# Altium integrated library TI Data Converters Analog to Digital Converter.IntLib: 2198 symbols (part 70 of 164)
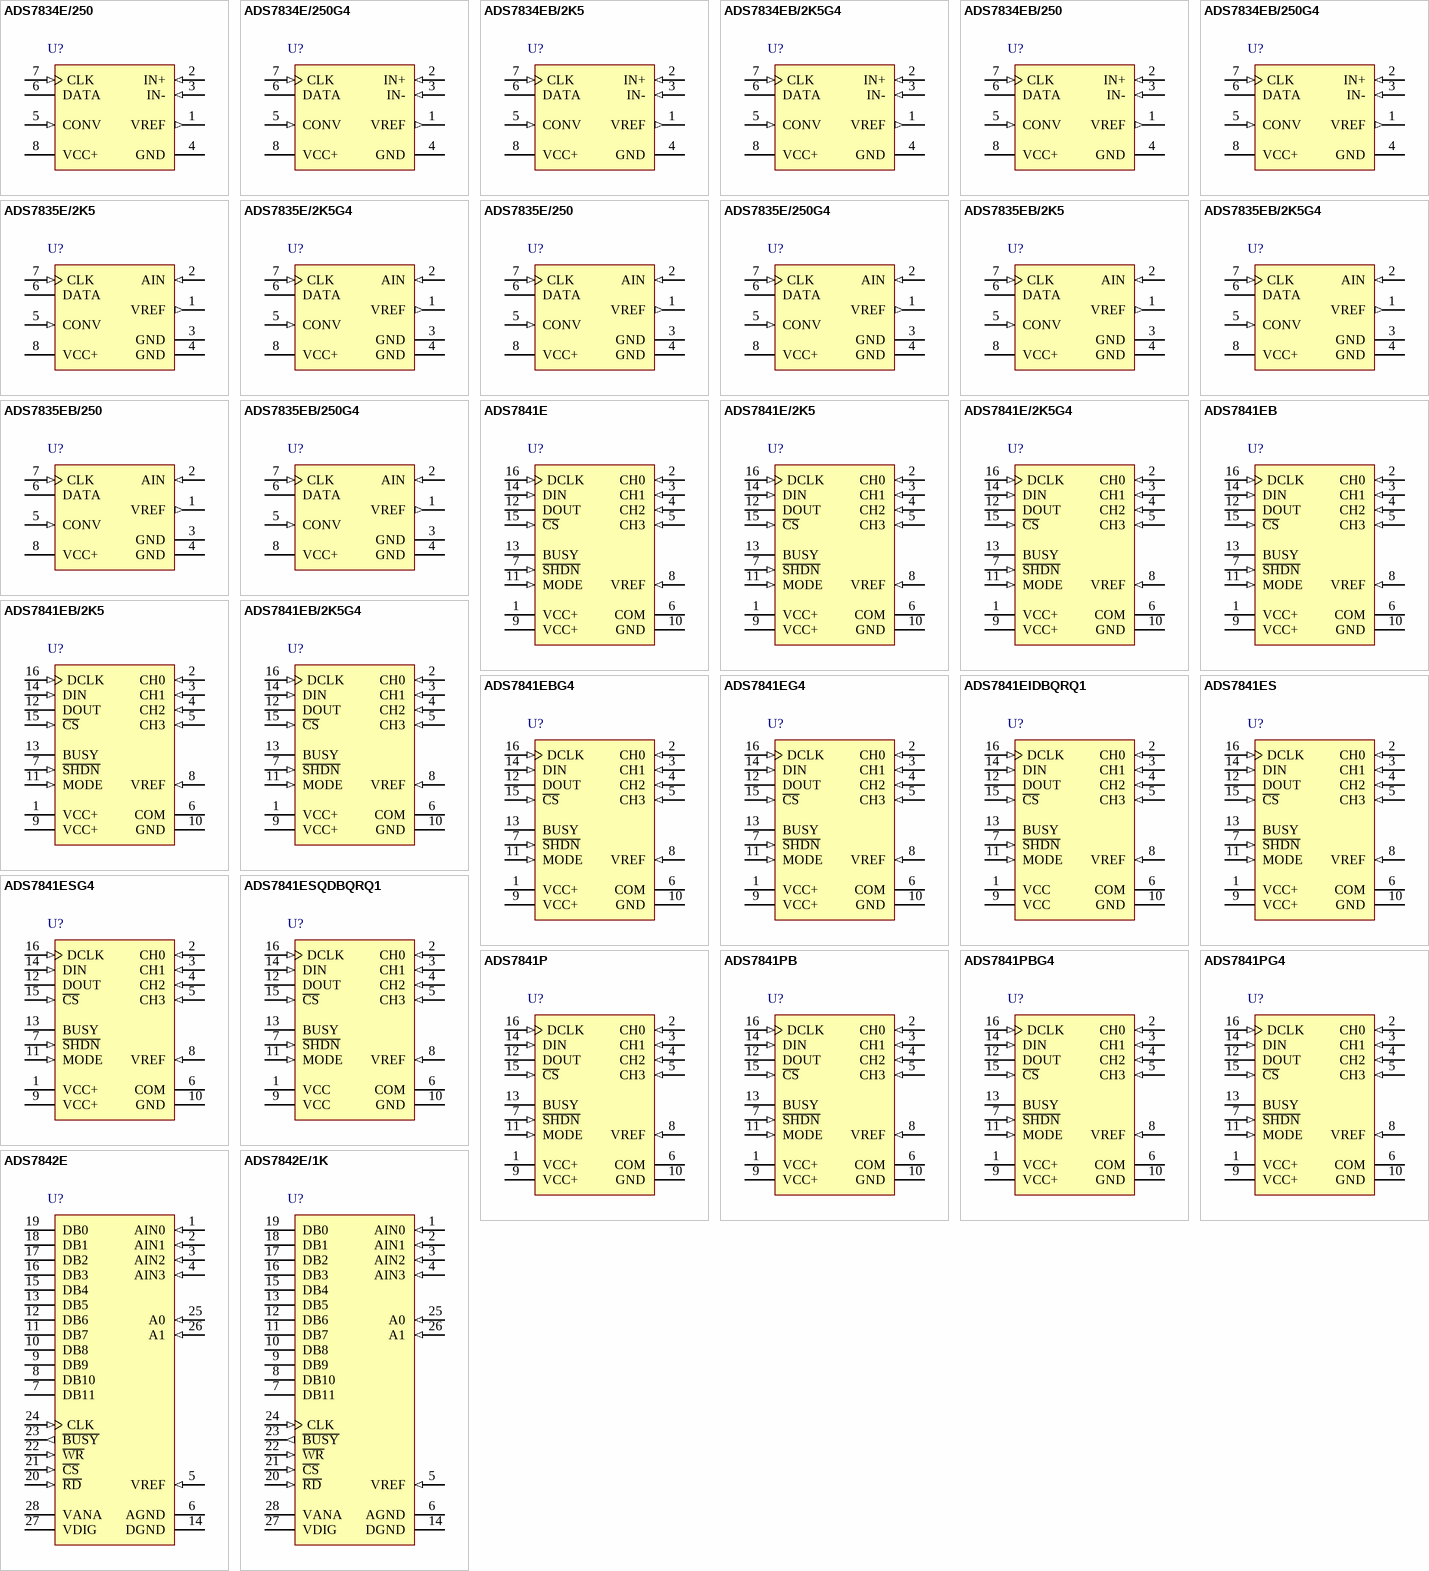
[diagram p195: symbols ADS7834E/250 to ADS7842E/1K]

## ADS7841EG4
designator U?
12-Bit, 4-Channel Serial Output Sampling ADC, -40 to 85 degC, 16-pin SOP (DBQ16), Green (RoHS & no Sb/Br); Manufacturer: Texas Instruments; PartNumber: ADS7841EG4; # Input Channels: 4; Analog Voltage AV/DD(Max)(V): 5.25; Analog Voltage AV/DD(Min)(V): 2.7; Architecture: SAR; INL(Max)(+/-LSB): 2; Interface: Serial SPI; Resolution(Bits): 12; Sample Rate (max)(SPS): 200k; SFDR(dB): 79; SINAD(dB): 71; SubFamily: Precision ADC (<=10MSPS); DatasheetVersion: SBAS084B; PackageVersion: 4073301-2/H, 10/2008; PackageReference: DBQ16; PackageDescription: 16-Pin Plastic Small Outline, Body 3.9 x 4.9 mm, Pitch 0.635 mm; Supplier 1: Digi-Key; Supplier Part Number 1: TLV1578CDAR-ND; Digital Supply(Max)(V): 5.25; Digital Supply(Min)(V): 2.7; Eco-Plan: Green (RoHS & no Sb/Br); Mounting Technology: Surface Mount; Code_JEDEC: MO-137; ComponentLink1Description: Manufacturer URL; ComponentLink1URL: http://www.ti.com/; ComponentLink2Description: Datasheet; ComponentLink2URL: http://www.ti.com/general/docs/lit/getliterature.tsp?genericPartNumber=ADS7841&fileType=pdf; ComponentLink3Description: Package Specification; ComponentLink3URL: http://www.ti.com/litv/pdf/msoi004g
footprint TI-DBQ16_N (SOP, 16-Leads, Body 4.9x3.9mm, Pitch 0.635mm, IPC Medium Density)
footprint TI-DBQ16_L (SOP, 16-Leads, Body 4.9x3.9mm, Pitch 0.635mm, IPC High Density)
footprint TI-DBQ16_M (SOP, 16-Leads, Body 4.9x3.9mm, Pitch 0.635mm, IPC Low Density)
pins: 1 VCC+ (power) "Power Supply, 2.7V to 5V", 2 CH0 (in) "Analog Input Channel 0", 3 CH1 (in) "Analog Input Channel 1", 4 CH2 (in) "Analog Input Channel 2", 5 CH3 (in) "Analog Input Channel 3", 6 COM (power) "Ground Reference for Analog Inputs. Sets zero code voltage in single-ended mode. Connect this pin to ground or ground reference point.", 7 ~{SHDN} (in) "Shutdown. When LOW, the device enters a very low power shutdown mode", 8 VREF (in) "Voltage Reference Input", 9 VCC+ (power) "Power Supply, 2.7V to 5V", 10 GND (power) "Ground", 11 MODE (in) "Conversion Mode. When LOW, the device always performs a 12-bit conversion. When HIGH, the resolution is set by the MODE bit in the CONTROL byte.", 12 DOUT (hiz) "Serial Data Output. Data is shifted on the falling edge of DCLK. This output is high impedance when C\S\ is HIGH.", 13 BUSY (hiz) "Busy Output. This output is high impedance when C\S\ is HIGH.", 14 DIN (in) "Serial Data Input. If C\S\ is LOW, data is latched on rising edge of DCLK.", 15 ~{CS} (in) "Chip Select Input. Controls conversion timing and enables the serial input/output register.", 16 DCLK (in) "External Clock Input. This clock runs the SAR conversion process and synchronizes serial data I/O."

## ADS7841EIDBQRQ1
designator U?
Automotive Catalog 12-Bit, 4-Channel Serial Output Sampling ADC, -40 to 125 degC, 16-pin SOP (DBQ16), Green (RoHS & no Sb/Br); Manufacturer: Texas Instruments; PartNumber: ADS7841EIDBQRQ1; # Input Channels: 4; Analog Voltage AV/DD(Max)(V): 5.25; Analog Voltage AV/DD(Min)(V): 2.7; Architecture: SAR; INL(Max)(+/-LSB): 1; Interface: Serial SPI; Resolution(Bits): 12; Sample Rate (max)(SPS): 200k; SFDR(dB): 79; SINAD(dB): 71; SubFamily: Precision ADC (<=10MSPS); DatasheetVersion: SBAS469C; PackageVersion: 4073301-2/H, 10/2008; PackageReference: DBQ16; PackageDescription: 16-Pin Plastic Small Outline, Body 3.9 x 4.9 mm, Pitch 0.635 mm; Supplier 1: Digi-Key; Supplier Part Number 1: TLV1578CDARG4-ND; Digital Supply(Max)(V): 5.25; Digital Supply(Min)(V): 2.7; Eco-Plan: Green (RoHS & no Sb/Br); Mounting Technology: Surface Mount; Code_JEDEC: MO-137; ComponentLink1Description: Manufacturer URL; ComponentLink1URL: http://www.ti.com/; ComponentLink2Description: Datasheet; ComponentLink2URL: http://www.ti.com/general/docs/lit/getliterature.tsp?genericPartNumber=ADS7841-Q1&fileType=pdf; ComponentLink3Description: Package Specification; ComponentLink3URL: http://www.ti.com/litv/pdf/msoi004g
footprint TI-DBQ16_N (SOP, 16-Leads, Body 4.9x3.9mm, Pitch 0.635mm, IPC Medium Density)
footprint TI-DBQ16_L (SOP, 16-Leads, Body 4.9x3.9mm, Pitch 0.635mm, IPC High Density)
footprint TI-DBQ16_M (SOP, 16-Leads, Body 4.9x3.9mm, Pitch 0.635mm, IPC Low Density)
pins: 1 VCC (power) "Power supply", 2 CH0 (in) "Analog input channel 0", 3 CH1 (in) "Analog input channel 1", 4 CH2 (in) "Analog input channel 2", 5 CH3 (in) "Analog input channel 3", 6 COM (power) "Ground reference for analog inputs. Sets zero code voltage in single-ended mode. Connect this pin to ground or ground reference point.", 7 ~{SHDN} (in) "Shutdown. When low, the device enters a very low power shutdown mode.", 8 VREF (in) "Voltage reference", 9 VCC (power) "Power supply", 10 GND (power) "Ground", 11 MODE (in) "Conversion mode. When low, the device always performs a 12-bit conversion. When high, the resolution is set by the MODE bit in the CONTROL byte.", 12 DOUT (hiz) "Serial data output. Data is shifted on the falling edge of DCLK. This output is high-impedance when C\S\ is high.", 13 BUSY (hiz) "Busy output. This output is high-impedance when C\S\ is high.", 14 DIN (in) "Serial data input. If C\S\ is low, data is latched on rising edge of DCLK.", 15 ~{CS} (in) "Chip select input. Controls conversion timing and enables the serial input/output register.", 16 DCLK (in) "External clock input. This clock runs the SAR conversion process and synchronizes serial data I/O."

## ADS7841ES
designator U?
12-Bit, 4-Channel Serial Output Sampling ADC, -40 to 125 degC, 16-pin SOP (DBQ16), Green (RoHS & no Sb/Br); Manufacturer: Texas Instruments; PartNumber: ADS7841ES; # Input Channels: 4; Analog Voltage AV/DD(Max)(V): 5.25; Analog Voltage AV/DD(Min)(V): 2.7; Architecture: SAR; INL(Max)(+/-LSB): 2; Interface: Serial SPI; Resolution(Bits): 12; Sample Rate (max)(SPS): 200k; SFDR(dB): 79; SINAD(dB): 71; SubFamily: Precision ADC (<=10MSPS); DatasheetVersion: SBAS084B; PackageVersion: 4073301-2/H, 10/2008; PackageReference: DBQ16; PackageDescription: 16-Pin Plastic Small Outline, Body 3.9 x 4.9 mm, Pitch 0.635 mm; Supplier 1: Digi-Key; Supplier Part Number 1: 296-2971-5-ND; Digital Supply(Max)(V): 5.25; Digital Supply(Min)(V): 2.7; Eco-Plan: Green (RoHS & no Sb/Br); Mounting Technology: Surface Mount; Code_JEDEC: MO-137; ComponentLink1Description: Manufacturer URL; ComponentLink1URL: http://www.ti.com/; ComponentLink2Description: Datasheet; ComponentLink2URL: http://www.ti.com/general/docs/lit/getliterature.tsp?genericPartNumber=ADS7841&fileType=pdf; ComponentLink3Description: Package Specification; ComponentLink3URL: http://www.ti.com/litv/pdf/msoi004g
footprint TI-DBQ16_N (SOP, 16-Leads, Body 4.9x3.9mm, Pitch 0.635mm, IPC Medium Density)
footprint TI-DBQ16_L (SOP, 16-Leads, Body 4.9x3.9mm, Pitch 0.635mm, IPC High Density)
footprint TI-DBQ16_M (SOP, 16-Leads, Body 4.9x3.9mm, Pitch 0.635mm, IPC Low Density)
pins: 1 VCC+ (power) "Power Supply, 2.7V to 5V", 2 CH0 (in) "Analog Input Channel 0", 3 CH1 (in) "Analog Input Channel 1", 4 CH2 (in) "Analog Input Channel 2", 5 CH3 (in) "Analog Input Channel 3", 6 COM (power) "Ground Reference for Analog Inputs. Sets zero code voltage in single-ended mode. Connect this pin to ground or ground reference point.", 7 ~{SHDN} (in) "Shutdown. When LOW, the device enters a very low power shutdown mode", 8 VREF (in) "Voltage Reference Input", 9 VCC+ (power) "Power Supply, 2.7V to 5V", 10 GND (power) "Ground", 11 MODE (in) "Conversion Mode. When LOW, the device always performs a 12-bit conversion. When HIGH, the resolution is set by the MODE bit in the CONTROL byte.", 12 DOUT (hiz) "Serial Data Output. Data is shifted on the falling edge of DCLK. This output is high impedance when C\S\ is HIGH.", 13 BUSY (hiz) "Busy Output. This output is high impedance when C\S\ is HIGH.", 14 DIN (in) "Serial Data Input. If C\S\ is LOW, data is latched on rising edge of DCLK.", 15 ~{CS} (in) "Chip Select Input. Controls conversion timing and enables the serial input/output register.", 16 DCLK (in) "External Clock Input. This clock runs the SAR conversion process and synchronizes serial data I/O."

## ADS7841ESG4
designator U?
12-Bit, 4-Channel Serial Output Sampling ADC, -40 to 125 degC, 16-pin SOP (DBQ16), Green (RoHS & no Sb/Br); Manufacturer: Texas Instruments; PartNumber: ADS7841ESG4; # Input Channels: 4; Analog Voltage AV/DD(Max)(V): 5.25; Analog Voltage AV/DD(Min)(V): 2.7; Architecture: SAR; INL(Max)(+/-LSB): 2; Interface: Serial SPI; Resolution(Bits): 12; Sample Rate (max)(SPS): 200k; SFDR(dB): 79; SINAD(dB): 71; SubFamily: Precision ADC (<=10MSPS); DatasheetVersion: SBAS084B; PackageVersion: 4073301-2/H, 10/2008; PackageReference: DBQ16; PackageDescription: 16-Pin Plastic Small Outline, Body 3.9 x 4.9 mm, Pitch 0.635 mm; Supplier 1: Digi-Key; Supplier Part Number 1: TLV1578IDAG4-ND; Digital Supply(Max)(V): 5.25; Digital Supply(Min)(V): 2.7; Eco-Plan: Green (RoHS & no Sb/Br); Mounting Technology: Surface Mount; Code_JEDEC: MO-137; ComponentLink1Description: Manufacturer URL; ComponentLink1URL: http://www.ti.com/; ComponentLink2Description: Datasheet; ComponentLink2URL: http://www.ti.com/general/docs/lit/getliterature.tsp?genericPartNumber=ADS7841&fileType=pdf; ComponentLink3Description: Package Specification; ComponentLink3URL: http://www.ti.com/litv/pdf/msoi004g
footprint TI-DBQ16_N (SOP, 16-Leads, Body 4.9x3.9mm, Pitch 0.635mm, IPC Medium Density)
footprint TI-DBQ16_L (SOP, 16-Leads, Body 4.9x3.9mm, Pitch 0.635mm, IPC High Density)
footprint TI-DBQ16_M (SOP, 16-Leads, Body 4.9x3.9mm, Pitch 0.635mm, IPC Low Density)
pins: 1 VCC+ (power) "Power Supply, 2.7V to 5V", 2 CH0 (in) "Analog Input Channel 0", 3 CH1 (in) "Analog Input Channel 1", 4 CH2 (in) "Analog Input Channel 2", 5 CH3 (in) "Analog Input Channel 3", 6 COM (power) "Ground Reference for Analog Inputs. Sets zero code voltage in single-ended mode. Connect this pin to ground or ground reference point.", 7 ~{SHDN} (in) "Shutdown. When LOW, the device enters a very low power shutdown mode", 8 VREF (in) "Voltage Reference Input", 9 VCC+ (power) "Power Supply, 2.7V to 5V", 10 GND (power) "Ground", 11 MODE (in) "Conversion Mode. When LOW, the device always performs a 12-bit conversion. When HIGH, the resolution is set by the MODE bit in the CONTROL byte.", 12 DOUT (hiz) "Serial Data Output. Data is shifted on the falling edge of DCLK. This output is high impedance when C\S\ is HIGH.", 13 BUSY (hiz) "Busy Output. This output is high impedance when C\S\ is HIGH.", 14 DIN (in) "Serial Data Input. If C\S\ is LOW, data is latched on rising edge of DCLK.", 15 ~{CS} (in) "Chip Select Input. Controls conversion timing and enables the serial input/output register.", 16 DCLK (in) "External Clock Input. This clock runs the SAR conversion process and synchronizes serial data I/O."

## ADS7841ESQDBQRQ1
designator U?
Automotive Catalog 12-Bit, 4-Channel Serial Output Sampling ADC, -40 to 125 degC, 16-pin SOP (DBQ16), Green (RoHS & no Sb/Br); Manufacturer: Texas Instruments; PartNumber: ADS7841ESQDBQRQ1; # Input Channels: 4; Analog Voltage AV/DD(Max)(V): 5.25; Analog Voltage AV/DD(Min)(V): 2.7; Architecture: SAR; INL(Max)(+/-LSB): 1; Interface: Serial SPI; Resolution(Bits): 12; Sample Rate (max)(SPS): 200k; SFDR(dB): 79; SINAD(dB): 71; SubFamily: Precision ADC (<=10MSPS); DatasheetVersion: SBAS469C; PackageVersion: 4073301-2/H, 10/2008; PackageReference: DBQ16; PackageDescription: 16-Pin Plastic Small Outline, Body 3.9 x 4.9 mm, Pitch 0.635 mm; Supplier 1: Digi-Key; Supplier Part Number 1: 296-2197-5-ND; Digital Supply(Max)(V): 5.25; Digital Supply(Min)(V): 2.7; Eco-Plan: Green (RoHS & no Sb/Br); Mounting Technology: Surface Mount; Code_JEDEC: MO-137; ComponentLink1Description: Manufacturer URL; ComponentLink1URL: http://www.ti.com/; ComponentLink2Description: Datasheet; ComponentLink2URL: http://www.ti.com/general/docs/lit/getliterature.tsp?genericPartNumber=ADS7841-Q1&fileType=pdf; ComponentLink3Description: Package Specification; ComponentLink3URL: http://www.ti.com/litv/pdf/msoi004g
footprint TI-DBQ16_N (SOP, 16-Leads, Body 4.9x3.9mm, Pitch 0.635mm, IPC Medium Density)
footprint TI-DBQ16_L (SOP, 16-Leads, Body 4.9x3.9mm, Pitch 0.635mm, IPC High Density)
footprint TI-DBQ16_M (SOP, 16-Leads, Body 4.9x3.9mm, Pitch 0.635mm, IPC Low Density)
pins: 1 VCC (power) "Power supply", 2 CH0 (in) "Analog input channel 0", 3 CH1 (in) "Analog input channel 1", 4 CH2 (in) "Analog input channel 2", 5 CH3 (in) "Analog input channel 3", 6 COM (power) "Ground reference for analog inputs. Sets zero code voltage in single-ended mode. Connect this pin to ground or ground reference point.", 7 ~{SHDN} (in) "Shutdown. When low, the device enters a very low power shutdown mode.", 8 VREF (in) "Voltage reference", 9 VCC (power) "Power supply", 10 GND (power) "Ground", 11 MODE (in) "Conversion mode. When low, the device always performs a 12-bit conversion. When high, the resolution is set by the MODE bit in the CONTROL byte.", 12 DOUT (hiz) "Serial data output. Data is shifted on the falling edge of DCLK. This output is high-impedance when C\S\ is high.", 13 BUSY (hiz) "Busy output. This output is high-impedance when C\S\ is high.", 14 DIN (in) "Serial data input. If C\S\ is low, data is latched on rising edge of DCLK.", 15 ~{CS} (in) "Chip select input. Controls conversion timing and enables the serial input/output register.", 16 DCLK (in) "External clock input. This clock runs the SAR conversion process and synchronizes serial data I/O."

## ADS7841P
designator U?
12-Bit, 4-Channel Serial Output Sampling ADC, -40 to 85 degC, 16-pin DIP (N16), Green (RoHS & no Sb/Br); Manufacturer: Texas Instruments; PartNumber: ADS7841P; # Input Channels: 4; Analog Voltage AV/DD(Max)(V): 5.25; Analog Voltage AV/DD(Min)(V): 2.7; Architecture: SAR; INL(Max)(+/-LSB): 2; Interface: Serial SPI; Resolution(Bits): 12; Sample Rate (max)(SPS): 200k; SFDR(dB): 79; SINAD(dB): 71; SubFamily: Precision ADC (<=10MSPS); DatasheetVersion: SBAS084B; PackageVersion: 4040049/E, 12/2002; PackageReference: N16; PackageDescription: 16-Pin Plastic In-Line, Body 19.305 x 6.35 mm, Pitch 2.54 mm; Supplier 1: Digi-Key; Supplier Part Number 1: TLV1571CDWG4-ND; Digital Supply(Max)(V): 5.25; Digital Supply(Min)(V): 2.7; Eco-Plan: Green (RoHS & no Sb/Br); Mounting Technology: Through Hole; Code_JEDEC: MS-001; ComponentLink1Description: Manufacturer URL; ComponentLink1URL: http://www.ti.com/; ComponentLink2Description: Datasheet; ComponentLink2URL: http://www.ti.com/general/docs/lit/getliterature.tsp?genericPartNumber=ADS7841&fileType=pdf; ComponentLink3Description: Package Specification; ComponentLink3URL: http://www.ti.com/litv/pdf/mpdi002c
footprint TI-N16 (DIP, 16-Leads, Body 19.305x6.35mm, Pitch 2.54mm)
pins: 1 VCC+ (power) "Power Supply, 2.7V to 5V", 2 CH0 (in) "Analog Input Channel 0", 3 CH1 (in) "Analog Input Channel 1", 4 CH2 (in) "Analog Input Channel 2", 5 CH3 (in) "Analog Input Channel 3", 6 COM (power) "Ground Reference for Analog Inputs. Sets zero code voltage in single-ended mode. Connect this pin to ground or ground reference point.", 7 ~{SHDN} (in) "Shutdown. When LOW, the device enters a very low power shutdown mode", 8 VREF (in) "Voltage Reference Input", 9 VCC+ (power) "Power Supply, 2.7V to 5V", 10 GND (power) "Ground", 11 MODE (in) "Conversion Mode. When LOW, the device always performs a 12-bit conversion. When HIGH, the resolution is set by the MODE bit in the CONTROL byte.", 12 DOUT (hiz) "Serial Data Output. Data is shifted on the falling edge of DCLK. This output is high impedance when C\S\ is HIGH.", 13 BUSY (hiz) "Busy Output. This output is high impedance when C\S\ is HIGH.", 14 DIN (in) "Serial Data Input. If C\S\ is LOW, data is latched on rising edge of DCLK.", 15 ~{CS} (in) "Chip Select Input. Controls conversion timing and enables the serial input/output register.", 16 DCLK (in) "External Clock Input. This clock runs the SAR conversion process and synchronizes serial data I/O."

## ADS7841PB
designator U?
12-Bit, 4-Channel Serial Output Sampling ADC, -40 to 85 degC, 16-pin DIP (N16), Green (RoHS & no Sb/Br); Manufacturer: Texas Instruments; PartNumber: ADS7841PB; # Input Channels: 4; Analog Voltage AV/DD(Max)(V): 5.25; Analog Voltage AV/DD(Min)(V): 2.7; Architecture: SAR; INL(Max)(+/-LSB): 1; Interface: Serial SPI; Resolution(Bits): 12; Sample Rate (max)(SPS): 200k; SFDR(dB): 81; SINAD(dB): 72; SubFamily: Precision ADC (<=10MSPS); DatasheetVersion: SBAS084B; PackageVersion: 4040049/E, 12/2002; PackageReference: N16; PackageDescription: 16-Pin Plastic In-Line, Body 19.305 x 6.35 mm, Pitch 2.54 mm; Supplier 1: Digi-Key; Supplier Part Number 1: 296-2968-5-ND; Digital Supply(Max)(V): 5.25; Digital Supply(Min)(V): 2.7; Eco-Plan: Green (RoHS & no Sb/Br); Mounting Technology: Through Hole; Code_JEDEC: MS-001; ComponentLink1Description: Manufacturer URL; ComponentLink1URL: http://www.ti.com/; ComponentLink2Description: Datasheet; ComponentLink2URL: http://www.ti.com/general/docs/lit/getliterature.tsp?genericPartNumber=ADS7841&fileType=pdf; ComponentLink3Description: Package Specification; ComponentLink3URL: http://www.ti.com/litv/pdf/mpdi002c
footprint TI-N16 (DIP, 16-Leads, Body 19.305x6.35mm, Pitch 2.54mm)
pins: 1 VCC+ (power) "Power Supply, 2.7V to 5V", 2 CH0 (in) "Analog Input Channel 0", 3 CH1 (in) "Analog Input Channel 1", 4 CH2 (in) "Analog Input Channel 2", 5 CH3 (in) "Analog Input Channel 3", 6 COM (power) "Ground Reference for Analog Inputs. Sets zero code voltage in single-ended mode. Connect this pin to ground or ground reference point.", 7 ~{SHDN} (in) "Shutdown. When LOW, the device enters a very low power shutdown mode", 8 VREF (in) "Voltage Reference Input", 9 VCC+ (power) "Power Supply, 2.7V to 5V", 10 GND (power) "Ground", 11 MODE (in) "Conversion Mode. When LOW, the device always performs a 12-bit conversion. When HIGH, the resolution is set by the MODE bit in the CONTROL byte.", 12 DOUT (hiz) "Serial Data Output. Data is shifted on the falling edge of DCLK. This output is high impedance when C\S\ is HIGH.", 13 BUSY (hiz) "Busy Output. This output is high impedance when C\S\ is HIGH.", 14 DIN (in) "Serial Data Input. If C\S\ is LOW, data is latched on rising edge of DCLK.", 15 ~{CS} (in) "Chip Select Input. Controls conversion timing and enables the serial input/output register.", 16 DCLK (in) "External Clock Input. This clock runs the SAR conversion process and synchronizes serial data I/O."

## ADS7841PBG4
designator U?
12-Bit, 4-Channel Serial Output Sampling ADC, -40 to 85 degC, 16-pin DIP (N16), Green (RoHS & no Sb/Br); Manufacturer: Texas Instruments; PartNumber: ADS7841PBG4; # Input Channels: 4; Analog Voltage AV/DD(Max)(V): 5.25; Analog Voltage AV/DD(Min)(V): 2.7; Architecture: SAR; INL(Max)(+/-LSB): 1; Interface: Serial SPI; Resolution(Bits): 12; Sample Rate (max)(SPS): 200k; SFDR(dB): 81; SINAD(dB): 72; SubFamily: Precision ADC (<=10MSPS); DatasheetVersion: SBAS084B; PackageVersion: 4040049/E, 12/2002; PackageReference: N16; PackageDescription: 16-Pin Plastic In-Line, Body 19.305 x 6.35 mm, Pitch 2.54 mm; Supplier 1: Digi-Key; Supplier Part Number 1: TLV1571IDWG4-ND; Digital Supply(Max)(V): 5.25; Digital Supply(Min)(V): 2.7; Eco-Plan: Green (RoHS & no Sb/Br); Mounting Technology: Through Hole; Code_JEDEC: MS-001; ComponentLink1Description: Manufacturer URL; ComponentLink1URL: http://www.ti.com/; ComponentLink2Description: Datasheet; ComponentLink2URL: http://www.ti.com/general/docs/lit/getliterature.tsp?genericPartNumber=ADS7841&fileType=pdf; ComponentLink3Description: Package Specification; ComponentLink3URL: http://www.ti.com/litv/pdf/mpdi002c
footprint TI-N16 (DIP, 16-Leads, Body 19.305x6.35mm, Pitch 2.54mm)
pins: 1 VCC+ (power) "Power Supply, 2.7V to 5V", 2 CH0 (in) "Analog Input Channel 0", 3 CH1 (in) "Analog Input Channel 1", 4 CH2 (in) "Analog Input Channel 2", 5 CH3 (in) "Analog Input Channel 3", 6 COM (power) "Ground Reference for Analog Inputs. Sets zero code voltage in single-ended mode. Connect this pin to ground or ground reference point.", 7 ~{SHDN} (in) "Shutdown. When LOW, the device enters a very low power shutdown mode", 8 VREF (in) "Voltage Reference Input", 9 VCC+ (power) "Power Supply, 2.7V to 5V", 10 GND (power) "Ground", 11 MODE (in) "Conversion Mode. When LOW, the device always performs a 12-bit conversion. When HIGH, the resolution is set by the MODE bit in the CONTROL byte.", 12 DOUT (hiz) "Serial Data Output. Data is shifted on the falling edge of DCLK. This output is high impedance when C\S\ is HIGH.", 13 BUSY (hiz) "Busy Output. This output is high impedance when C\S\ is HIGH.", 14 DIN (in) "Serial Data Input. If C\S\ is LOW, data is latched on rising edge of DCLK.", 15 ~{CS} (in) "Chip Select Input. Controls conversion timing and enables the serial input/output register.", 16 DCLK (in) "External Clock Input. This clock runs the SAR conversion process and synchronizes serial data I/O."

## ADS7841PG4
designator U?
12-Bit, 4-Channel Serial Output Sampling ADC, -40 to 85 degC, 16-pin DIP (N16), Green (RoHS & no Sb/Br); Manufacturer: Texas Instruments; PartNumber: ADS7841PG4; # Input Channels: 4; Analog Voltage AV/DD(Max)(V): 5.25; Analog Voltage AV/DD(Min)(V): 2.7; Architecture: SAR; INL(Max)(+/-LSB): 2; Interface: Serial SPI; Resolution(Bits): 12; Sample Rate (max)(SPS): 200k; SFDR(dB): 79; SINAD(dB): 71; SubFamily: Precision ADC (<=10MSPS); DatasheetVersion: SBAS084B; PackageVersion: 4040049/E, 12/2002; PackageReference: N16; PackageDescription: 16-Pin Plastic In-Line, Body 19.305 x 6.35 mm, Pitch 2.54 mm; Supplier 1: Digi-Key; Supplier Part Number 1: 296-2969-5-ND; Digital Supply(Max)(V): 5.25; Digital Supply(Min)(V): 2.7; Eco-Plan: Green (RoHS & no Sb/Br); Mounting Technology: Through Hole; Code_JEDEC: MS-001; ComponentLink1Description: Manufacturer URL; ComponentLink1URL: http://www.ti.com/; ComponentLink2Description: Datasheet; ComponentLink2URL: http://www.ti.com/general/docs/lit/getliterature.tsp?genericPartNumber=ADS7841&fileType=pdf; ComponentLink3Description: Package Specification; ComponentLink3URL: http://www.ti.com/litv/pdf/mpdi002c
footprint TI-N16 (DIP, 16-Leads, Body 19.305x6.35mm, Pitch 2.54mm)
pins: 1 VCC+ (power) "Power Supply, 2.7V to 5V", 2 CH0 (in) "Analog Input Channel 0", 3 CH1 (in) "Analog Input Channel 1", 4 CH2 (in) "Analog Input Channel 2", 5 CH3 (in) "Analog Input Channel 3", 6 COM (power) "Ground Reference for Analog Inputs. Sets zero code voltage in single-ended mode. Connect this pin to ground or ground reference point.", 7 ~{SHDN} (in) "Shutdown. When LOW, the device enters a very low power shutdown mode", 8 VREF (in) "Voltage Reference Input", 9 VCC+ (power) "Power Supply, 2.7V to 5V", 10 GND (power) "Ground", 11 MODE (in) "Conversion Mode. When LOW, the device always performs a 12-bit conversion. When HIGH, the resolution is set by the MODE bit in the CONTROL byte.", 12 DOUT (hiz) "Serial Data Output. Data is shifted on the falling edge of DCLK. This output is high impedance when C\S\ is HIGH.", 13 BUSY (hiz) "Busy Output. This output is high impedance when C\S\ is HIGH.", 14 DIN (in) "Serial Data Input. If C\S\ is LOW, data is latched on rising edge of DCLK.", 15 ~{CS} (in) "Chip Select Input. Controls conversion timing and enables the serial input/output register.", 16 DCLK (in) "External Clock Input. This clock runs the SAR conversion process and synchronizes serial data I/O."

## ADS7842E
designator U?
12-Bit, 4-Channel Parallel Output Sampling ADC, -40 to 85 degC, 28-pin SOP (DB28), Green (RoHS & no Sb/Br); Manufacturer: Texas Instruments; PartNumber: ADS7842E; # Input Channels: 4; Analog Voltage AV/DD(Max)(V): 5.25; Analog Voltage AV/DD(Min)(V): 4.75; Architecture: SAR; INL(Max)(+/-LSB): 1; Interface: Parallel CMOS; Resolution(Bits): 12; Sample Rate (max)(SPS): 200k; SFDR(dB): 79; SINAD(dB): 71; SubFamily: Precision ADC (<=10MSPS); DatasheetVersion: SBAS103C; PackageVersion: 4040065/E, 12/2001; PackageReference: DB28; PackageDescription: 28-Pin Plastic Small Outline, Body 10.2 X 5.3 mm, Pitch 0.65 mm; Supplier 1: Digi-Key; Supplier Part Number 1: TLV1571IPWG4-ND; Digital Supply(Max)(V): 5.25; Digital Supply(Min)(V): 4.75; Eco-Plan: Green (RoHS & no Sb/Br); Mounting Technology: Surface Mount; Code_JEDEC: MO-150; ComponentLink1Description: Manufacturer URL; ComponentLink1URL: http://www.ti.com/; ComponentLink2Description: Datasheet; ComponentLink2URL: http://www.ti.com/general/docs/lit/getliterature.tsp?genericPartNumber=ADS7842&fileType=pdf; ComponentLink3Description: Package Specification; ComponentLink3URL: http://www.ti.com/lit/ml/msso002e/msso002e.pdf
footprint TI-DB28_N (SOP, 28-Leads, Body 10.2x5.3mm, Pitch 0.65mm, IPC Medium Density)
footprint TI-DB28_L (SOP, 28-Leads, Body 10.2x5.3mm, Pitch 0.65mm, IPC High Density)
footprint TI-DB28_M (SOP, 28-Leads, Body 10.2x5.3mm, Pitch 0.65mm, IPC Low Density)
pins: 1 AIN0 (in) "Analog Input Channel 0", 2 AIN1 (in) "Analog Input Channel 1", 3 AIN2 (in) "Analog Input Channel 2", 4 AIN3 (in) "Analog Input Channel 3", 5 VREF (in) "Voltage Reference Input. See Electrical Characteristics Tables for ranges.", 6 AGND (power) "Analog Ground", 7 DB11 (hiz) "Data Bit 11 (MSB)", 8 DB10 (hiz) "Data Bit 10", 9 DB9 (hiz) "Data Bit 9", 10 DB8 (hiz) "Data Bit 8", 11 DB7 (hiz) "Data Bit 7", 12 DB6 (hiz) "Data Bit 6", 13 DB5 (hiz) "Data Bit 5", 14 DGND (power) "Digital Ground", 15 DB4 (hiz) "Data Bit 4", 16 DB3 (hiz) "Data Bit 3", 17 DB2 (hiz) "Data Bit 2", 18 DB1 (hiz) "Data Bit 1", 19 DB0 (hiz) "Data Bit 0 (LSB)", 20 ~{RD} (in) "Read Input. Active LOW. Reads the data outputs in combination with C\S\.", 21 ~{CS} (in) "Chip Select Input. Active LOW. The combination of C\S\ taken LOW and W\R\ taken LOW initiates a new conversion and places the outputs in the tri-state mode.", 22 ~{WR} (in) "Write Input. Active LOW. Starts a new conversion and selects an analog channel via address inputs A0 and A1, in combination with C\S\.", 23 ~{BUSY} (out) "B\U\S\Y\ goes LOW and stays LOW during a conversion. B\U\S\Y\ rises when a conversion is complete and enables the parallel outputs.", 24 CLK (in) "External Clock Input. The clock speed determines the conversion rate by the equation fCLK = 16 • fSAMPLE.", 25 A0 (in) "Address Inputs. Selects one of four analog input channels in combination with C\S\ and W\R\. The address inputs are latched on the rising edge of either R\D\ or W\R\.", 26 A1 (in) "Address Inputs. Selects one of four analog input channels in combination with C\S\ and W\R\. The address inputs are latched on the rising edge of either R\D\ or W\R\.", 27 VDIG (power) "Digital Supply Input. Nominally +5V.", 28 VANA (power) "Analog Supply Input. Nominally +5V."

## ADS7842E/1K
designator U?
12-Bit, 4-Channel Parallel Output Sampling ADC, -40 to 85 degC, 28-pin SOP (DB28), Green (RoHS & no Sb/Br); Manufacturer: Texas Instruments; PartNumber: ADS7842E/1K; # Input Channels: 4; Analog Voltage AV/DD(Max)(V): 5.25; Analog Voltage AV/DD(Min)(V): 2.7; Architecture: SAR; INL(Max)(+/-LSB): 2; Interface: Parallel CMOS; Resolution(Bits): 12; Sample Rate (max)(SPS): 200k; SFDR(dB): 79; SINAD(dB): 71; SNR(dB): 72; SubFamily: Precision ADC (<=10MSPS); DatasheetVersion: SBAS103C; PackageVersion: 4040065/E, 12/2001; PackageReference: DB28; PackageDescription: 28-Pin Plastic Small Outline, Body 10.2 X 5.3 mm, Pitch 0.65 mm; Supplier 1: Digi-Key; Supplier Part Number 1: 296-2204-5-ND; Digital Supply(Max)(V): 5.25; Digital Supply(Min)(V): 2.7; Eco-Plan: Green (RoHS & no Sb/Br); Mounting Technology: Surface Mount; Code_JEDEC: MO-150; ComponentLink1Description: Manufacturer URL; ComponentLink1URL: http://www.ti.com/; ComponentLink2Description: Datasheet; ComponentLink2URL: http://www.ti.com/general/docs/lit/getliterature.tsp?genericPartNumber=ADS7842&fileType=pdf; ComponentLink3Description: Package Specification; ComponentLink3URL: http://www.ti.com/lit/ml/msso002e/msso002e.pdf
footprint TI-DB28_N (SOP, 28-Leads, Body 10.2x5.3mm, Pitch 0.65mm, IPC Medium Density)
footprint TI-DB28_L (SOP, 28-Leads, Body 10.2x5.3mm, Pitch 0.65mm, IPC High Density)
footprint TI-DB28_M (SOP, 28-Leads, Body 10.2x5.3mm, Pitch 0.65mm, IPC Low Density)
pins: 1 AIN0 (in) "Analog Input Channel 0", 2 AIN1 (in) "Analog Input Channel 1", 3 AIN2 (in) "Analog Input Channel 2", 4 AIN3 (in) "Analog Input Channel 3", 5 VREF (in) "Voltage Reference Input. See Electrical Characteristics Tables for ranges.", 6 AGND (power) "Analog Ground", 7 DB11 (hiz) "Data Bit 11 (MSB)", 8 DB10 (hiz) "Data Bit 10", 9 DB9 (hiz) "Data Bit 9", 10 DB8 (hiz) "Data Bit 8", 11 DB7 (hiz) "Data Bit 7", 12 DB6 (hiz) "Data Bit 6", 13 DB5 (hiz) "Data Bit 5", 14 DGND (power) "Digital Ground", 15 DB4 (hiz) "Data Bit 4", 16 DB3 (hiz) "Data Bit 3", 17 DB2 (hiz) "Data Bit 2", 18 DB1 (hiz) "Data Bit 1", 19 DB0 (hiz) "Data Bit 0 (LSB)", 20 ~{RD} (in) "Read Input. Active LOW. Reads the data outputs in combination with C\S\.", 21 ~{CS} (in) "Chip Select Input. Active LOW. The combination of C\S\ taken LOW and W\R\ taken LOW initiates a new conversion and places the outputs in the tri-state mode.", 22 ~{WR} (in) "Write Input. Active LOW. Starts a new conversion and selects an analog channel via address inputs A0 and A1, in combination with C\S\.", 23 ~{BUSY} (out) "B\U\S\Y\ goes LOW and stays LOW during a conversion. B\U\S\Y\ rises when a conversion is complete and enables the parallel outputs.", 24 CLK (in) "External Clock Input. The clock speed determines the conversion rate by the equation fCLK = 16 • fSAMPLE.", 25 A0 (in) "Address Inputs. Selects one of four analog input channels in combination with C\S\ and W\R\. The address inputs are latched on the rising edge of either R\D\ or W\R\.", 26 A1 (in) "Address Inputs. Selects one of four analog input channels in combination with C\S\ and W\R\. The address inputs are latched on the rising edge of either R\D\ or W\R\.", 27 VDIG (power) "Digital Supply Input. Nominally +5V.", 28 VANA (power) "Analog Supply Input. Nominally +5V."

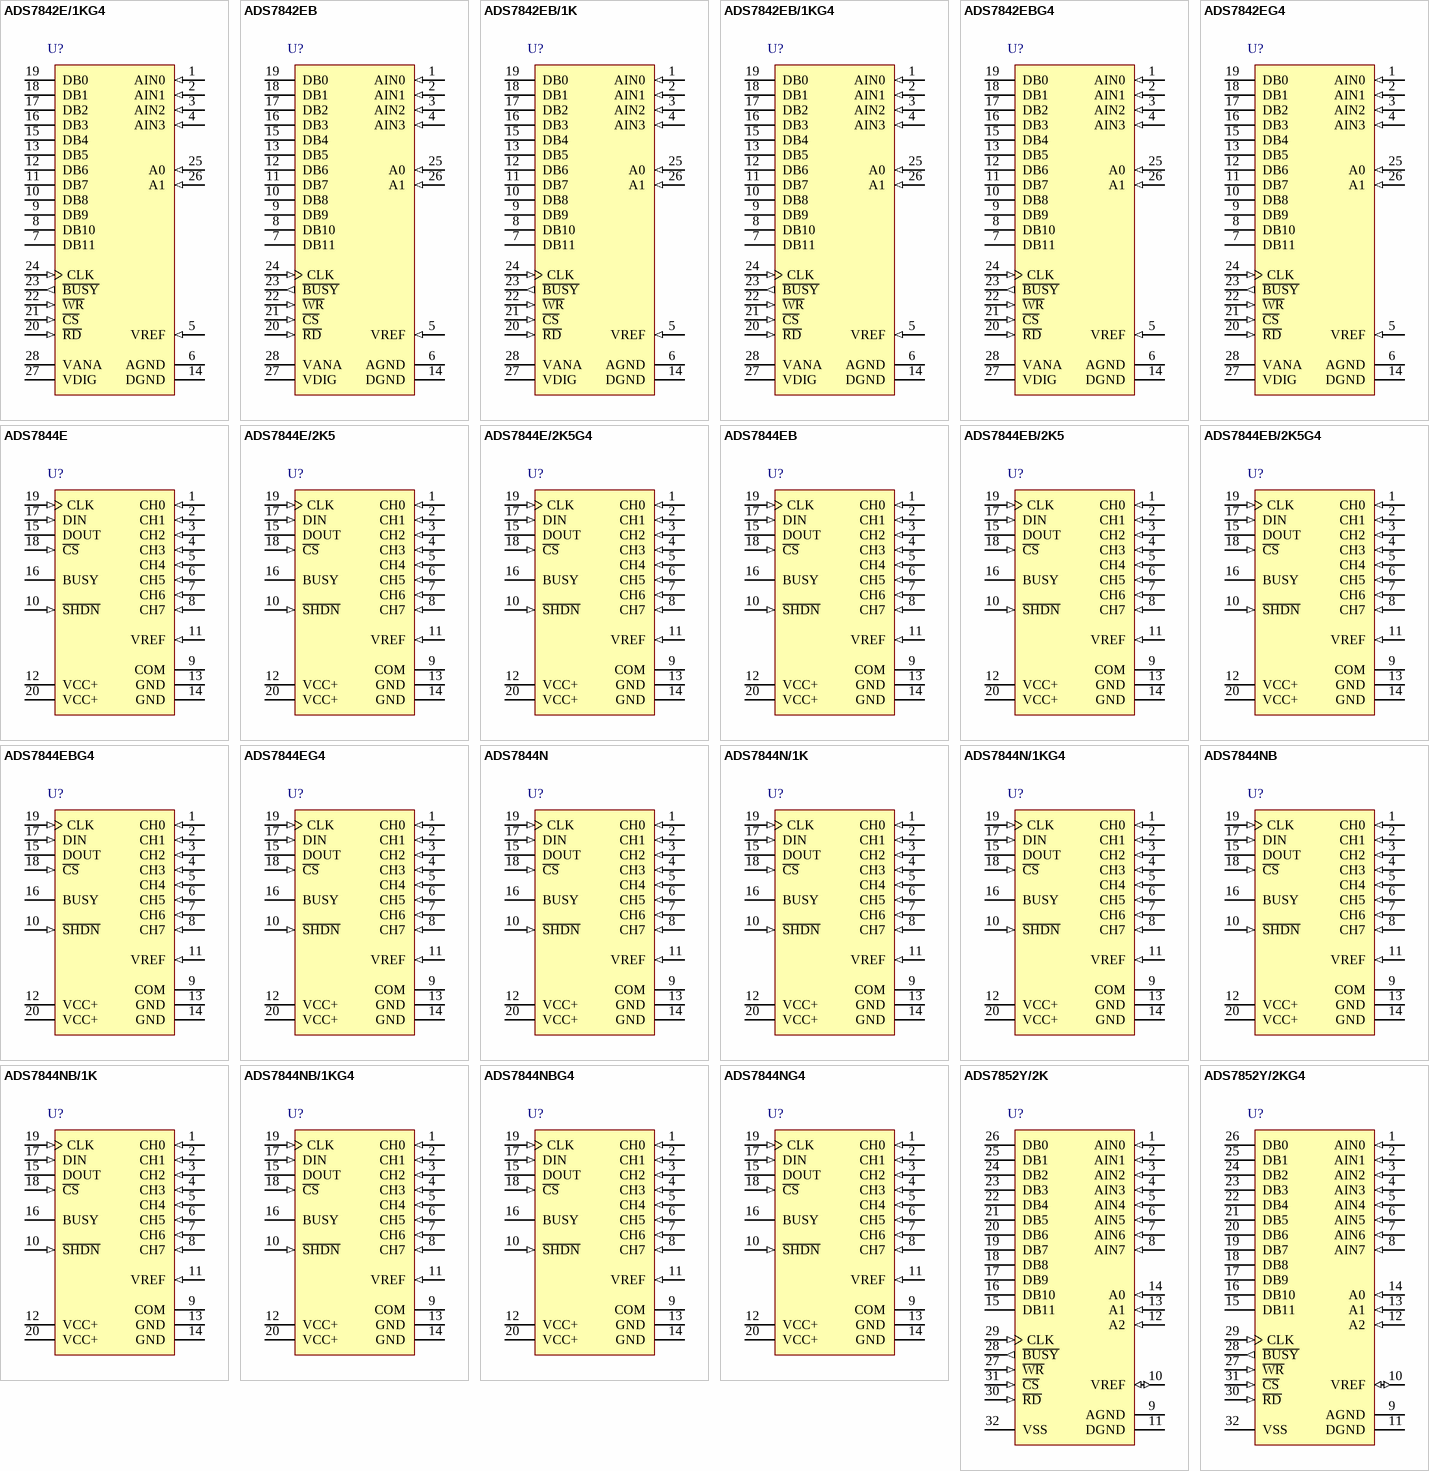
[diagram p65: symbols ADS7842E/1KG4 to ADS7852Y/2KG4]

## ADS7842E/1KG4
designator U?
12-Bit, 4-Channel Parallel Output Sampling ADC, -40 to 85 degC, 28-pin SOP (DB28), Green (RoHS & no Sb/Br); Manufacturer: Texas Instruments; PartNumber: ADS7842E/1KG4; # Input Channels: 4; Analog Voltage AV/DD(Max)(V): 5.25; Analog Voltage AV/DD(Min)(V): 2.7; Architecture: SAR; INL(Max)(+/-LSB): 2; Interface: Parallel CMOS; Resolution(Bits): 12; Sample Rate (max)(SPS): 200k; SFDR(dB): 79; SINAD(dB): 71; SNR(dB): 72; SubFamily: Precision ADC (<=10MSPS); DatasheetVersion: SBAS103C; PackageVersion: 4040065/E, 12/2001; PackageReference: DB28; PackageDescription: 28-Pin Plastic Small Outline, Body 10.2 X 5.3 mm, Pitch 0.65 mm; Supplier 1: Digi-Key; Supplier Part Number 1: TLV2548CDWG4-ND; Digital Supply(Max)(V): 5.25; Digital Supply(Min)(V): 2.7; Eco-Plan: Green (RoHS & no Sb/Br); Mounting Technology: Surface Mount; Code_JEDEC: MO-150; ComponentLink1Description: Manufacturer URL; ComponentLink1URL: http://www.ti.com/; ComponentLink2Description: Datasheet; ComponentLink2URL: http://www.ti.com/general/docs/lit/getliterature.tsp?genericPartNumber=ADS7842&fileType=pdf; ComponentLink3Description: Package Specification; ComponentLink3URL: http://www.ti.com/lit/ml/msso002e/msso002e.pdf
footprint TI-DB28_N (SOP, 28-Leads, Body 10.2x5.3mm, Pitch 0.65mm, IPC Medium Density)
footprint TI-DB28_L (SOP, 28-Leads, Body 10.2x5.3mm, Pitch 0.65mm, IPC High Density)
footprint TI-DB28_M (SOP, 28-Leads, Body 10.2x5.3mm, Pitch 0.65mm, IPC Low Density)
pins: 1 AIN0 (in) "Analog Input Channel 0", 2 AIN1 (in) "Analog Input Channel 1", 3 AIN2 (in) "Analog Input Channel 2", 4 AIN3 (in) "Analog Input Channel 3", 5 VREF (in) "Voltage Reference Input. See Electrical Characteristics Tables for ranges.", 6 AGND (power) "Analog Ground", 7 DB11 (hiz) "Data Bit 11 (MSB)", 8 DB10 (hiz) "Data Bit 10", 9 DB9 (hiz) "Data Bit 9", 10 DB8 (hiz) "Data Bit 8", 11 DB7 (hiz) "Data Bit 7", 12 DB6 (hiz) "Data Bit 6", 13 DB5 (hiz) "Data Bit 5", 14 DGND (power) "Digital Ground", 15 DB4 (hiz) "Data Bit 4", 16 DB3 (hiz) "Data Bit 3", 17 DB2 (hiz) "Data Bit 2", 18 DB1 (hiz) "Data Bit 1", 19 DB0 (hiz) "Data Bit 0 (LSB)", 20 ~{RD} (in) "Read Input. Active LOW. Reads the data outputs in combination with C\S\.", 21 ~{CS} (in) "Chip Select Input. Active LOW. The combination of C\S\ taken LOW and W\R\ taken LOW initiates a new conversion and places the outputs in the tri-state mode.", 22 ~{WR} (in) "Write Input. Active LOW. Starts a new conversion and selects an analog channel via address inputs A0 and A1, in combination with C\S\.", 23 ~{BUSY} (out) "B\U\S\Y\ goes LOW and stays LOW during a conversion. B\U\S\Y\ rises when a conversion is complete and enables the parallel outputs.", 24 CLK (in) "External Clock Input. The clock speed determines the conversion rate by the equation fCLK = 16 • fSAMPLE.", 25 A0 (in) "Address Inputs. Selects one of four analog input channels in combination with C\S\ and W\R\. The address inputs are latched on the rising edge of either R\D\ or W\R\.", 26 A1 (in) "Address Inputs. Selects one of four analog input channels in combination with C\S\ and W\R\. The address inputs are latched on the rising edge of either R\D\ or W\R\.", 27 VDIG (power) "Digital Supply Input. Nominally +5V.", 28 VANA (power) "Analog Supply Input. Nominally +5V."

## ADS7842EB
designator U?
12-Bit, 4-Channel Parallel Output Sampling ADC, -40 to 85 degC, 28-pin SOP (DB28), Green (RoHS & no Sb/Br); Manufacturer: Texas Instruments; PartNumber: ADS7842EB; # Input Channels: 4; Analog Voltage AV/DD(Max)(V): 5.25; Analog Voltage AV/DD(Min)(V): 2.7; Architecture: SAR; INL(Max)(+/-LSB): 1; Interface: Parallel CMOS; Resolution(Bits): 12; Sample Rate (max)(SPS): 200k; SFDR(dB): 81; SINAD(dB): 72; SubFamily: Precision ADC (<=10MSPS); DatasheetVersion: SBAS103C; PackageVersion: 4040065/E, 12/2001; PackageReference: DB28; PackageDescription: 28-Pin Plastic Small Outline, Body 10.2 X 5.3 mm, Pitch 0.65 mm; Supplier 1: Digi-Key; Supplier Part Number 1: TLV2548CDWR-ND; Digital Supply(Max)(V): 5.25; Digital Supply(Min)(V): 2.7; Eco-Plan: Green (RoHS & no Sb/Br); SNR(dB): 72; Mounting Technology: Surface Mount; Code_JEDEC: MO-150; ComponentLink1Description: Manufacturer URL; ComponentLink1URL: http://www.ti.com/; ComponentLink2Description: Datasheet; ComponentLink2URL: http://www.ti.com/general/docs/lit/getliterature.tsp?genericPartNumber=ADS7842&fileType=pdf; ComponentLink3Description: Package Specification; ComponentLink3URL: http://www.ti.com/lit/ml/msso002e/msso002e.pdf
footprint TI-DB28_N (SOP, 28-Leads, Body 10.2x5.3mm, Pitch 0.65mm, IPC Medium Density)
footprint TI-DB28_L (SOP, 28-Leads, Body 10.2x5.3mm, Pitch 0.65mm, IPC High Density)
footprint TI-DB28_M (SOP, 28-Leads, Body 10.2x5.3mm, Pitch 0.65mm, IPC Low Density)
pins: 1 AIN0 (in) "Analog Input Channel 0", 2 AIN1 (in) "Analog Input Channel 1", 3 AIN2 (in) "Analog Input Channel 2", 4 AIN3 (in) "Analog Input Channel 3", 5 VREF (in) "Voltage Reference Input. See Electrical Characteristics Tables for ranges.", 6 AGND (power) "Analog Ground", 7 DB11 (hiz) "Data Bit 11 (MSB)", 8 DB10 (hiz) "Data Bit 10", 9 DB9 (hiz) "Data Bit 9", 10 DB8 (hiz) "Data Bit 8", 11 DB7 (hiz) "Data Bit 7", 12 DB6 (hiz) "Data Bit 6", 13 DB5 (hiz) "Data Bit 5", 14 DGND (power) "Digital Ground", 15 DB4 (hiz) "Data Bit 4", 16 DB3 (hiz) "Data Bit 3", 17 DB2 (hiz) "Data Bit 2", 18 DB1 (hiz) "Data Bit 1", 19 DB0 (hiz) "Data Bit 0 (LSB)", 20 ~{RD} (in) "Read Input. Active LOW. Reads the data outputs in combination with C\S\.", 21 ~{CS} (in) "Chip Select Input. Active LOW. The combination of C\S\ taken LOW and W\R\ taken LOW initiates a new conversion and places the outputs in the tri-state mode.", 22 ~{WR} (in) "Write Input. Active LOW. Starts a new conversion and selects an analog channel via address inputs A0 and A1, in combination with C\S\.", 23 ~{BUSY} (out) "B\U\S\Y\ goes LOW and stays LOW during a conversion. B\U\S\Y\ rises when a conversion is complete and enables the parallel outputs.", 24 CLK (in) "External Clock Input. The clock speed determines the conversion rate by the equation fCLK = 16 • fSAMPLE.", 25 A0 (in) "Address Inputs. Selects one of four analog input channels in combination with C\S\ and W\R\. The address inputs are latched on the rising edge of either R\D\ or W\R\.", 26 A1 (in) "Address Inputs. Selects one of four analog input channels in combination with C\S\ and W\R\. The address inputs are latched on the rising edge of either R\D\ or W\R\.", 27 VDIG (power) "Digital Supply Input. Nominally +5V.", 28 VANA (power) "Analog Supply Input. Nominally +5V."

## ADS7842EB/1K
designator U?
12-Bit, 4-Channel Parallel Output Sampling ADC, -40 to 85 degC, 28-pin SOP (DB28), Green (RoHS & no Sb/Br); Manufacturer: Texas Instruments; PartNumber: ADS7842EB/1K; # Input Channels: 4; Analog Voltage AV/DD(Max)(V): 5.25; Analog Voltage AV/DD(Min)(V): 2.7; Architecture: SAR; INL(Max)(+/-LSB): 1; Interface: Parallel CMOS; Resolution(Bits): 12; Sample Rate (max)(SPS): 200k; SFDR(dB): 81; SINAD(dB): 72; SubFamily: Precision ADC (<=10MSPS); DatasheetVersion: SBAS103C; PackageVersion: 4040065/E, 12/2001; PackageReference: DB28; PackageDescription: 28-Pin Plastic Small Outline, Body 10.2 X 5.3 mm, Pitch 0.65 mm; Supplier 1: Digi-Key; Supplier Part Number 1: TLV2548CDWRG4-ND; Digital Supply(Max)(V): 5.25; Digital Supply(Min)(V): 2.7; Eco-Plan: Green (RoHS & no Sb/Br); SNR(dB): 72; Mounting Technology: Surface Mount; Code_JEDEC: MO-150; ComponentLink1Description: Manufacturer URL; ComponentLink1URL: http://www.ti.com/; ComponentLink2Description: Datasheet; ComponentLink2URL: http://www.ti.com/general/docs/lit/getliterature.tsp?genericPartNumber=ADS7842&fileType=pdf; ComponentLink3Description: Package Specification; ComponentLink3URL: http://www.ti.com/lit/ml/msso002e/msso002e.pdf
footprint TI-DB28_N (SOP, 28-Leads, Body 10.2x5.3mm, Pitch 0.65mm, IPC Medium Density)
footprint TI-DB28_L (SOP, 28-Leads, Body 10.2x5.3mm, Pitch 0.65mm, IPC High Density)
footprint TI-DB28_M (SOP, 28-Leads, Body 10.2x5.3mm, Pitch 0.65mm, IPC Low Density)
pins: 1 AIN0 (in) "Analog Input Channel 0", 2 AIN1 (in) "Analog Input Channel 1", 3 AIN2 (in) "Analog Input Channel 2", 4 AIN3 (in) "Analog Input Channel 3", 5 VREF (in) "Voltage Reference Input. See Electrical Characteristics Tables for ranges.", 6 AGND (power) "Analog Ground", 7 DB11 (hiz) "Data Bit 11 (MSB)", 8 DB10 (hiz) "Data Bit 10", 9 DB9 (hiz) "Data Bit 9", 10 DB8 (hiz) "Data Bit 8", 11 DB7 (hiz) "Data Bit 7", 12 DB6 (hiz) "Data Bit 6", 13 DB5 (hiz) "Data Bit 5", 14 DGND (power) "Digital Ground", 15 DB4 (hiz) "Data Bit 4", 16 DB3 (hiz) "Data Bit 3", 17 DB2 (hiz) "Data Bit 2", 18 DB1 (hiz) "Data Bit 1", 19 DB0 (hiz) "Data Bit 0 (LSB)", 20 ~{RD} (in) "Read Input. Active LOW. Reads the data outputs in combination with C\S\.", 21 ~{CS} (in) "Chip Select Input. Active LOW. The combination of C\S\ taken LOW and W\R\ taken LOW initiates a new conversion and places the outputs in the tri-state mode.", 22 ~{WR} (in) "Write Input. Active LOW. Starts a new conversion and selects an analog channel via address inputs A0 and A1, in combination with C\S\.", 23 ~{BUSY} (out) "B\U\S\Y\ goes LOW and stays LOW during a conversion. B\U\S\Y\ rises when a conversion is complete and enables the parallel outputs.", 24 CLK (in) "External Clock Input. The clock speed determines the conversion rate by the equation fCLK = 16 • fSAMPLE.", 25 A0 (in) "Address Inputs. Selects one of four analog input channels in combination with C\S\ and W\R\. The address inputs are latched on the rising edge of either R\D\ or W\R\.", 26 A1 (in) "Address Inputs. Selects one of four analog input channels in combination with C\S\ and W\R\. The address inputs are latched on the rising edge of either R\D\ or W\R\.", 27 VDIG (power) "Digital Supply Input. Nominally +5V.", 28 VANA (power) "Analog Supply Input. Nominally +5V."

## ADS7842EB/1KG4
designator U?
12-Bit, 4-Channel Parallel Output Sampling ADC, -40 to 85 degC, 28-pin SOP (DB28), Green (RoHS & no Sb/Br); Manufacturer: Texas Instruments; PartNumber: ADS7842EB/1KG4; # Input Channels: 4; Analog Voltage AV/DD(Max)(V): 5.25; Analog Voltage AV/DD(Min)(V): 2.7; Architecture: SAR; INL(Max)(+/-LSB): 1; Interface: Parallel CMOS; Resolution(Bits): 12; Sample Rate (max)(SPS): 200k; SFDR(dB): 81; SINAD(dB): 72; SubFamily: Precision ADC (<=10MSPS); DatasheetVersion: SBAS103C; PackageVersion: 4040065/E, 12/2001; PackageReference: DB28; PackageDescription: 28-Pin Plastic Small Outline, Body 10.2 X 5.3 mm, Pitch 0.65 mm; Supplier 1: Digi-Key; Supplier Part Number 1: TLV2548CPW-ND; Digital Supply(Max)(V): 5.25; Digital Supply(Min)(V): 2.7; Eco-Plan: Green (RoHS & no Sb/Br); SNR(dB): 72; Mounting Technology: Surface Mount; Code_JEDEC: MO-150; ComponentLink1Description: Manufacturer URL; ComponentLink1URL: http://www.ti.com/; ComponentLink2Description: Datasheet; ComponentLink2URL: http://www.ti.com/general/docs/lit/getliterature.tsp?genericPartNumber=ADS7842&fileType=pdf; ComponentLink3Description: Package Specification; ComponentLink3URL: http://www.ti.com/lit/ml/msso002e/msso002e.pdf
footprint TI-DB28_N (SOP, 28-Leads, Body 10.2x5.3mm, Pitch 0.65mm, IPC Medium Density)
footprint TI-DB28_L (SOP, 28-Leads, Body 10.2x5.3mm, Pitch 0.65mm, IPC High Density)
footprint TI-DB28_M (SOP, 28-Leads, Body 10.2x5.3mm, Pitch 0.65mm, IPC Low Density)
pins: 1 AIN0 (in) "Analog Input Channel 0", 2 AIN1 (in) "Analog Input Channel 1", 3 AIN2 (in) "Analog Input Channel 2", 4 AIN3 (in) "Analog Input Channel 3", 5 VREF (in) "Voltage Reference Input. See Electrical Characteristics Tables for ranges.", 6 AGND (power) "Analog Ground", 7 DB11 (hiz) "Data Bit 11 (MSB)", 8 DB10 (hiz) "Data Bit 10", 9 DB9 (hiz) "Data Bit 9", 10 DB8 (hiz) "Data Bit 8", 11 DB7 (hiz) "Data Bit 7", 12 DB6 (hiz) "Data Bit 6", 13 DB5 (hiz) "Data Bit 5", 14 DGND (power) "Digital Ground", 15 DB4 (hiz) "Data Bit 4", 16 DB3 (hiz) "Data Bit 3", 17 DB2 (hiz) "Data Bit 2", 18 DB1 (hiz) "Data Bit 1", 19 DB0 (hiz) "Data Bit 0 (LSB)", 20 ~{RD} (in) "Read Input. Active LOW. Reads the data outputs in combination with C\S\.", 21 ~{CS} (in) "Chip Select Input. Active LOW. The combination of C\S\ taken LOW and W\R\ taken LOW initiates a new conversion and places the outputs in the tri-state mode.", 22 ~{WR} (in) "Write Input. Active LOW. Starts a new conversion and selects an analog channel via address inputs A0 and A1, in combination with C\S\.", 23 ~{BUSY} (out) "B\U\S\Y\ goes LOW and stays LOW during a conversion. B\U\S\Y\ rises when a conversion is complete and enables the parallel outputs.", 24 CLK (in) "External Clock Input. The clock speed determines the conversion rate by the equation fCLK = 16 • fSAMPLE.", 25 A0 (in) "Address Inputs. Selects one of four analog input channels in combination with C\S\ and W\R\. The address inputs are latched on the rising edge of either R\D\ or W\R\.", 26 A1 (in) "Address Inputs. Selects one of four analog input channels in combination with C\S\ and W\R\. The address inputs are latched on the rising edge of either R\D\ or W\R\.", 27 VDIG (power) "Digital Supply Input. Nominally +5V.", 28 VANA (power) "Analog Supply Input. Nominally +5V."

## ADS7842EBG4
designator U?
12-Bit, 4-Channel Parallel Output Sampling ADC, -40 to 85 degC, 28-pin SOP (DB28), Green (RoHS & no Sb/Br); Manufacturer: Texas Instruments; PartNumber: ADS7842EBG4; # Input Channels: 4; Analog Voltage AV/DD(Max)(V): 5.25; Analog Voltage AV/DD(Min)(V): 2.7; Architecture: SAR; INL(Max)(+/-LSB): 1; Interface: Parallel CMOS; Resolution(Bits): 12; Sample Rate (max)(SPS): 200k; SFDR(dB): 81; SINAD(dB): 72; SubFamily: Precision ADC (<=10MSPS); DatasheetVersion: SBAS103C; PackageVersion: 4040065/E, 12/2001; PackageReference: DB28; PackageDescription: 28-Pin Plastic Small Outline, Body 10.2 X 5.3 mm, Pitch 0.65 mm; Supplier 1: Digi-Key; Supplier Part Number 1: TLV2548CPWG4-ND; Digital Supply(Max)(V): 5.25; Digital Supply(Min)(V): 2.7; Eco-Plan: Green (RoHS & no Sb/Br); SNR(dB): 72; Mounting Technology: Surface Mount; Code_JEDEC: MO-150; ComponentLink1Description: Manufacturer URL; ComponentLink1URL: http://www.ti.com/; ComponentLink2Description: Datasheet; ComponentLink2URL: http://www.ti.com/general/docs/lit/getliterature.tsp?genericPartNumber=ADS7842&fileType=pdf; ComponentLink3Description: Package Specification; ComponentLink3URL: http://www.ti.com/lit/ml/msso002e/msso002e.pdf
footprint TI-DB28_N (SOP, 28-Leads, Body 10.2x5.3mm, Pitch 0.65mm, IPC Medium Density)
footprint TI-DB28_L (SOP, 28-Leads, Body 10.2x5.3mm, Pitch 0.65mm, IPC High Density)
footprint TI-DB28_M (SOP, 28-Leads, Body 10.2x5.3mm, Pitch 0.65mm, IPC Low Density)
pins: 1 AIN0 (in) "Analog Input Channel 0", 2 AIN1 (in) "Analog Input Channel 1", 3 AIN2 (in) "Analog Input Channel 2", 4 AIN3 (in) "Analog Input Channel 3", 5 VREF (in) "Voltage Reference Input. See Electrical Characteristics Tables for ranges.", 6 AGND (power) "Analog Ground", 7 DB11 (hiz) "Data Bit 11 (MSB)", 8 DB10 (hiz) "Data Bit 10", 9 DB9 (hiz) "Data Bit 9", 10 DB8 (hiz) "Data Bit 8", 11 DB7 (hiz) "Data Bit 7", 12 DB6 (hiz) "Data Bit 6", 13 DB5 (hiz) "Data Bit 5", 14 DGND (power) "Digital Ground", 15 DB4 (hiz) "Data Bit 4", 16 DB3 (hiz) "Data Bit 3", 17 DB2 (hiz) "Data Bit 2", 18 DB1 (hiz) "Data Bit 1", 19 DB0 (hiz) "Data Bit 0 (LSB)", 20 ~{RD} (in) "Read Input. Active LOW. Reads the data outputs in combination with C\S\.", 21 ~{CS} (in) "Chip Select Input. Active LOW. The combination of C\S\ taken LOW and W\R\ taken LOW initiates a new conversion and places the outputs in the tri-state mode.", 22 ~{WR} (in) "Write Input. Active LOW. Starts a new conversion and selects an analog channel via address inputs A0 and A1, in combination with C\S\.", 23 ~{BUSY} (out) "B\U\S\Y\ goes LOW and stays LOW during a conversion. B\U\S\Y\ rises when a conversion is complete and enables the parallel outputs.", 24 CLK (in) "External Clock Input. The clock speed determines the conversion rate by the equation fCLK = 16 • fSAMPLE.", 25 A0 (in) "Address Inputs. Selects one of four analog input channels in combination with C\S\ and W\R\. The address inputs are latched on the rising edge of either R\D\ or W\R\.", 26 A1 (in) "Address Inputs. Selects one of four analog input channels in combination with C\S\ and W\R\. The address inputs are latched on the rising edge of either R\D\ or W\R\.", 27 VDIG (power) "Digital Supply Input. Nominally +5V.", 28 VANA (power) "Analog Supply Input. Nominally +5V."

## ADS7842EG4
designator U?
12-Bit, 4-Channel Parallel Output Sampling ADC, -40 to 85 degC, 28-pin SOP (DB28), Green (RoHS & no Sb/Br); Manufacturer: Texas Instruments; PartNumber: ADS7842EG4; # Input Channels: 4; Analog Voltage AV/DD(Max)(V): 5.25; Analog Voltage AV/DD(Min)(V): 2.7; Architecture: SAR; INL(Max)(+/-LSB): 2; Interface: Parallel CMOS; Resolution(Bits): 12; Sample Rate (max)(SPS): 200k; SFDR(dB): 79; SINAD(dB): 71; SNR(dB): 72; SubFamily: Precision ADC (<=10MSPS); DatasheetVersion: SBAS103C; PackageVersion: 4040065/E, 12/2001; PackageReference: DB28; PackageDescription: 28-Pin Plastic Small Outline, Body 10.2 X 5.3 mm, Pitch 0.65 mm; Supplier 1: Digi-Key; Supplier Part Number 1: TLV2548CPWR-ND; Digital Supply(Max)(V): 5.25; Digital Supply(Min)(V): 2.7; Eco-Plan: Green (RoHS & no Sb/Br); Mounting Technology: Surface Mount; Code_JEDEC: MO-150; ComponentLink1Description: Manufacturer URL; ComponentLink1URL: http://www.ti.com/; ComponentLink2Description: Datasheet; ComponentLink2URL: http://www.ti.com/general/docs/lit/getliterature.tsp?genericPartNumber=ADS7842&fileType=pdf; ComponentLink3Description: Package Specification; ComponentLink3URL: http://www.ti.com/lit/ml/msso002e/msso002e.pdf
footprint TI-DB28_N (SOP, 28-Leads, Body 10.2x5.3mm, Pitch 0.65mm, IPC Medium Density)
footprint TI-DB28_L (SOP, 28-Leads, Body 10.2x5.3mm, Pitch 0.65mm, IPC High Density)
footprint TI-DB28_M (SOP, 28-Leads, Body 10.2x5.3mm, Pitch 0.65mm, IPC Low Density)
pins: 1 AIN0 (in) "Analog Input Channel 0", 2 AIN1 (in) "Analog Input Channel 1", 3 AIN2 (in) "Analog Input Channel 2", 4 AIN3 (in) "Analog Input Channel 3", 5 VREF (in) "Voltage Reference Input. See Electrical Characteristics Tables for ranges.", 6 AGND (power) "Analog Ground", 7 DB11 (hiz) "Data Bit 11 (MSB)", 8 DB10 (hiz) "Data Bit 10", 9 DB9 (hiz) "Data Bit 9", 10 DB8 (hiz) "Data Bit 8", 11 DB7 (hiz) "Data Bit 7", 12 DB6 (hiz) "Data Bit 6", 13 DB5 (hiz) "Data Bit 5", 14 DGND (power) "Digital Ground", 15 DB4 (hiz) "Data Bit 4", 16 DB3 (hiz) "Data Bit 3", 17 DB2 (hiz) "Data Bit 2", 18 DB1 (hiz) "Data Bit 1", 19 DB0 (hiz) "Data Bit 0 (LSB)", 20 ~{RD} (in) "Read Input. Active LOW. Reads the data outputs in combination with C\S\.", 21 ~{CS} (in) "Chip Select Input. Active LOW. The combination of C\S\ taken LOW and W\R\ taken LOW initiates a new conversion and places the outputs in the tri-state mode.", 22 ~{WR} (in) "Write Input. Active LOW. Starts a new conversion and selects an analog channel via address inputs A0 and A1, in combination with C\S\.", 23 ~{BUSY} (out) "B\U\S\Y\ goes LOW and stays LOW during a conversion. B\U\S\Y\ rises when a conversion is complete and enables the parallel outputs.", 24 CLK (in) "External Clock Input. The clock speed determines the conversion rate by the equation fCLK = 16 • fSAMPLE.", 25 A0 (in) "Address Inputs. Selects one of four analog input channels in combination with C\S\ and W\R\. The address inputs are latched on the rising edge of either R\D\ or W\R\.", 26 A1 (in) "Address Inputs. Selects one of four analog input channels in combination with C\S\ and W\R\. The address inputs are latched on the rising edge of either R\D\ or W\R\.", 27 VDIG (power) "Digital Supply Input. Nominally +5V.", 28 VANA (power) "Analog Supply Input. Nominally +5V."